# Altium schematic symbol library ULN2003ADR2G.SchLib: 1 symbol
Pins are listed as number, name and electrical type; pins without a type are passive.

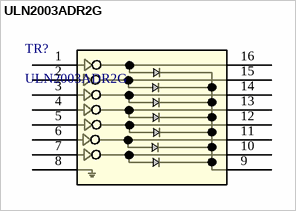
[diagram p0: symbol ULN2003ADR2G]

## ULN2003ADR2G
designator TR?
No Description Available; Manufacturer_Name: onsemi; Copyright: Copyright (C) 2026 Ultra Librarian. All rights reserved.; Manufacturer_Part_Number: ULN2003ADR2G; RefDes: RefDes; Type: Type
footprint ULN2003ADR2G_OSI
pins: 1, 2, 3, 4, 5, 6, 7, 8, 9, 10, 11, 12, 13, 14, 15, 16